# Altium footprint library Connector_Molex.PcbLib: 815 footprints (part 43 of 51)
Each footprint in its own frame and in the unit in brackets; x right, y up, seen from the top. Pads: shape width x height; smd on the part's side, far side on the other; paste and mask are expansions set on the pad; w line width, h text height; cw(c..) or ccw(c..) is an arc to the next point about the centre after c.
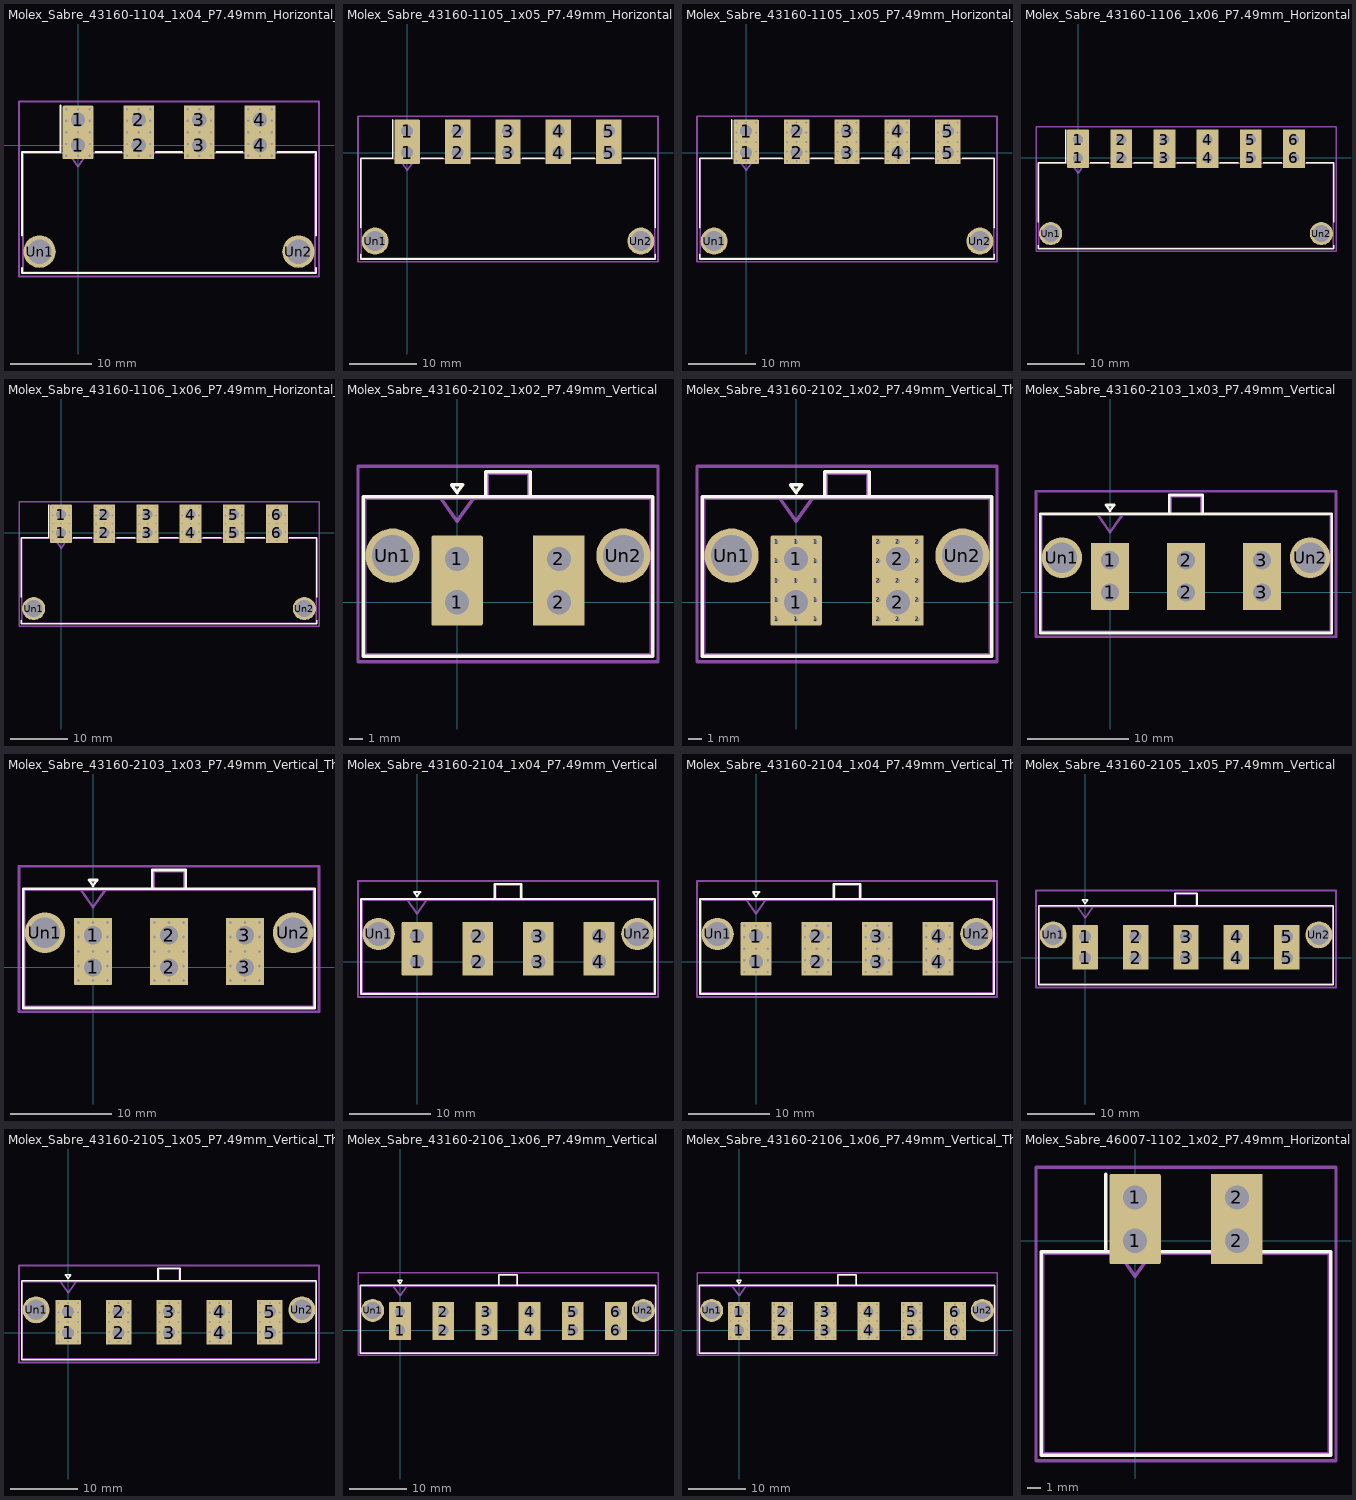
[diagram p42: the footprints below, top view; thin cyan lines are the x and y axes]

## Molex_Sabre_43160-1104_1x04_P7.49mm_Horizontal_ThermalVias [mm]
pads (62):
  rrect25% 0.6x0.6 hole 0.3: 1(-1.44,-1.265) 1(-1.44,0.162) 1(-1.44,1.59) 1(-1.44,3.017) 1(-1.44,4.445) 1(0,-1.265) 1(0,1.59) 1(0,4.445) 1(1.44,-1.265) 1(1.44,0.162) 1(1.44,1.59) 1(1.44,3.017) 1(1.44,4.445)
  rrect7% 3.78x3.43 hole 1.78: 1(0,0) 1(0,3.18)
  round 0.6 hole 0.3: 2(6.05,-1.265) 2(6.05,0.162) 2(6.05,1.59) 2(6.05,3.017) 2(6.05,4.445) 2(7.49,-1.265) 2(7.49,1.59) 2(7.49,4.445) 2(8.93,-1.265) 2(8.93,0.162) 2(8.93,1.59) 2(8.93,3.017) 2(8.93,4.445) 3(13.54,-1.265) 3(13.54,0.162) 3(13.54,1.59) 3(13.54,3.017) 3(13.54,4.445) 3(14.98,-1.265) 3(14.98,1.59) 3(14.98,4.445) 3(16.42,-1.265) 3(16.42,0.162) 3(16.42,1.59) 3(16.42,3.017) 3(16.42,4.445) 4(21.03,-1.265) 4(21.03,0.162) 4(21.03,1.59) 4(21.03,3.017) 4(21.03,4.445) 4(22.47,-1.265) 4(22.47,1.59) 4(22.47,4.445) 4(23.91,-1.265) 4(23.91,0.162) 4(23.91,1.59) 4(23.91,3.017) 4(23.91,4.445)
  rect 3.78x3.43 hole 1.78: 2(7.49,0) 2(7.49,3.18) 3(14.98,0) 3(14.98,3.18) 4(22.47,0) 4(22.47,3.18)
  round 4 hole 3: Un1(-4.75,-13.13) Un2(27.22,-13.13)
F.SilkS:
  lines w0.254: -6.9,-15.13 -6.9,-15.795 11.235,-15.795 29.37,-15.795 29.37,-15.13 ; -6.9,-11.13 -6.9,-0.815 -2.15,-0.815 -2.15,4.895 ; 2.15,-0.815 5.34,-0.815 ; 9.64,-0.815 12.83,-0.815 ; 17.13,-0.815 20.32,-0.815 ; 24.62,-0.815 29.37,-0.815 29.37,-11.13
B.SilkS:
  lines w0.254: -2.15,-1.975 2.15,-1.975 2.15,5.155 -2.15,5.155 -2.15,-1.975
Top Assembly:
  lines w0.254: -1.2,-0.925 0,-2.622 1.2,-0.925 ; -6.79,-15.685 29.26,-15.685 29.26,-0.925 -6.79,-0.925 -6.79,-15.685 ; -0.5,-0.925 0.5,-0.925 0.5,4.07 -0.5,4.07 -0.5,-0.925 ; 6.99,-0.925 7.99,-0.925 7.99,4.07 6.99,4.07 6.99,-0.925 ; 14.48,-0.925 15.48,-0.925 15.48,4.07 14.48,4.07 14.48,-0.925 ; 21.97,-0.925 22.97,-0.925 22.97,4.07 21.97,4.07 21.97,-0.925
  text "'.Designator'" at 7.193,-15.82 h1
Top Courtyard:
  lines w0.254: -7.29,-16.19 29.76,-16.19 29.76,5.4 -7.29,5.4 -7.29,-16.19
Top Designator:
  text ".Designator" at 3.617,-5.903 h1.52

## Molex_Sabre_43160-1105_1x05_P7.49mm_Horizontal [mm]
pads (12):
  rrect7% 3.78x3.43 hole 1.78: 1(0,0) 1(0,3.18)
  rect 3.78x3.43 hole 1.78: 2(7.49,0) 2(7.49,3.18) 3(14.98,0) 3(14.98,3.18) 4(22.47,0) 4(22.47,3.18) 5(29.96,0) 5(29.96,3.18)
  round 4 hole 3: Un1(-4.75,-13.13) Un2(34.71,-13.13)
F.SilkS:
  lines w0.254: -6.9,-15.13 -6.9,-15.795 14.98,-15.795 36.86,-15.795 36.86,-15.13 ; -6.9,-11.13 -6.9,-0.815 -2.15,-0.815 -2.15,4.895 ; 2.15,-0.815 5.34,-0.815 ; 9.64,-0.815 12.83,-0.815 ; 17.13,-0.815 20.32,-0.815 ; 24.62,-0.815 27.81,-0.815 ; 32.11,-0.815 36.86,-0.815 36.86,-11.13
B.SilkS:
  lines w0.254: -2.15,-1.975 2.15,-1.975 2.15,5.155 -2.15,5.155 -2.15,-1.975
Top Assembly:
  lines w0.254: -1.2,-0.925 0,-2.622 1.2,-0.925 ; -6.79,-15.685 36.75,-15.685 36.75,-0.925 -6.79,-0.925 -6.79,-15.685 ; -0.5,-0.925 0.5,-0.925 0.5,4.07 -0.5,4.07 -0.5,-0.925 ; 6.99,-0.925 7.99,-0.925 7.99,4.07 6.99,4.07 6.99,-0.925 ; 14.48,-0.925 15.48,-0.925 15.48,4.07 14.48,4.07 14.48,-0.925 ; 21.97,-0.925 22.97,-0.925 22.97,4.07 21.97,4.07 21.97,-0.925 ; 29.46,-0.925 30.46,-0.925 30.46,4.07 29.46,4.07 29.46,-0.925
  text "'.Designator'" at 10.933,-15.82 h1
Top Courtyard:
  lines w0.254: -7.29,-16.19 37.25,-16.19 37.25,5.4 -7.29,5.4 -7.29,-16.19
Top Designator:
  text ".Designator" at 7.362,-5.903 h1.52

## Molex_Sabre_43160-1105_1x05_P7.49mm_Horizontal_ThermalVias [mm]
pads (77):
  rrect25% 0.6x0.6 hole 0.3: 1(-1.44,-1.265) 1(-1.44,0.162) 1(-1.44,1.59) 1(-1.44,3.017) 1(-1.44,4.445) 1(0,-1.265) 1(0,1.59) 1(0,4.445) 1(1.44,-1.265) 1(1.44,0.162) 1(1.44,1.59) 1(1.44,3.017) 1(1.44,4.445)
  rrect7% 3.78x3.43 hole 1.78: 1(0,0) 1(0,3.18)
  round 0.6 hole 0.3: 2(6.05,-1.265) 2(6.05,0.162) 2(6.05,1.59) 2(6.05,3.017) 2(6.05,4.445) 2(7.49,-1.265) 2(7.49,1.59) 2(7.49,4.445) 2(8.93,-1.265) 2(8.93,0.162) 2(8.93,1.59) 2(8.93,3.017) 2(8.93,4.445) 3(13.54,-1.265) 3(13.54,0.162) 3(13.54,1.59) 3(13.54,3.017) 3(13.54,4.445) 3(14.98,-1.265) 3(14.98,1.59) 3(14.98,4.445) 3(16.42,-1.265) 3(16.42,0.162) 3(16.42,1.59) 3(16.42,3.017) 3(16.42,4.445) 4(21.03,-1.265) 4(21.03,0.162) 4(21.03,1.59) 4(21.03,3.017) 4(21.03,4.445) 4(22.47,-1.265) 4(22.47,1.59) 4(22.47,4.445) 4(23.91,-1.265) 4(23.91,0.162) 4(23.91,1.59) 4(23.91,3.017) 4(23.91,4.445) 5(28.52,-1.265) 5(28.52,0.162) 5(28.52,1.59) 5(28.52,3.017) 5(28.52,4.445) 5(29.96,-1.265) 5(29.96,1.59) 5(29.96,4.445) 5(31.4,-1.265) 5(31.4,0.162) 5(31.4,1.59) 5(31.4,3.017) 5(31.4,4.445)
  rect 3.78x3.43 hole 1.78: 2(7.49,0) 2(7.49,3.18) 3(14.98,0) 3(14.98,3.18) 4(22.47,0) 4(22.47,3.18) 5(29.96,0) 5(29.96,3.18)
  round 4 hole 3: Un1(-4.75,-13.13) Un2(34.71,-13.13)
F.SilkS:
  lines w0.254: -6.9,-15.13 -6.9,-15.795 14.98,-15.795 36.86,-15.795 36.86,-15.13 ; -6.9,-11.13 -6.9,-0.815 -2.15,-0.815 -2.15,4.895 ; 2.15,-0.815 5.34,-0.815 ; 9.64,-0.815 12.83,-0.815 ; 17.13,-0.815 20.32,-0.815 ; 24.62,-0.815 27.81,-0.815 ; 32.11,-0.815 36.86,-0.815 36.86,-11.13
B.SilkS:
  lines w0.254: -2.15,-1.975 2.15,-1.975 2.15,5.155 -2.15,5.155 -2.15,-1.975
Top Assembly:
  lines w0.254: -1.2,-0.925 0,-2.622 1.2,-0.925 ; -6.79,-15.685 36.75,-15.685 36.75,-0.925 -6.79,-0.925 -6.79,-15.685 ; -0.5,-0.925 0.5,-0.925 0.5,4.07 -0.5,4.07 -0.5,-0.925 ; 6.99,-0.925 7.99,-0.925 7.99,4.07 6.99,4.07 6.99,-0.925 ; 14.48,-0.925 15.48,-0.925 15.48,4.07 14.48,4.07 14.48,-0.925 ; 21.97,-0.925 22.97,-0.925 22.97,4.07 21.97,4.07 21.97,-0.925 ; 29.46,-0.925 30.46,-0.925 30.46,4.07 29.46,4.07 29.46,-0.925
  text "'.Designator'" at 10.933,-15.82 h1
Top Courtyard:
  lines w0.254: -7.29,-16.19 37.25,-16.19 37.25,5.4 -7.29,5.4 -7.29,-16.19
Top Designator:
  text ".Designator" at 7.362,-5.903 h1.52

## Molex_Sabre_43160-1106_1x06_P7.49mm_Horizontal [mm]
pads (14):
  rrect7% 3.78x3.43 hole 1.78: 1(0,0) 1(0,3.18)
  rect 3.78x3.43 hole 1.78: 2(7.49,0) 2(7.49,3.18) 3(14.98,0) 3(14.98,3.18) 4(22.47,0) 4(22.47,3.18) 5(29.96,0) 5(29.96,3.18) 6(37.45,0) 6(37.45,3.18)
  round 4 hole 3: Un1(-4.75,-13.13) Un2(42.2,-13.13)
F.SilkS:
  lines w0.254: -6.9,-15.13 -6.9,-15.795 18.725,-15.795 44.35,-15.795 44.35,-15.13 ; -6.9,-11.13 -6.9,-0.815 -2.15,-0.815 -2.15,4.895 ; 2.15,-0.815 5.34,-0.815 ; 9.64,-0.815 12.83,-0.815 ; 17.13,-0.815 20.32,-0.815 ; 24.62,-0.815 27.81,-0.815 ; 32.11,-0.815 35.3,-0.815 ; 39.6,-0.815 44.35,-0.815 44.35,-11.13
B.SilkS:
  lines w0.254: -2.15,-1.975 2.15,-1.975 2.15,5.155 -2.15,5.155 -2.15,-1.975
Top Assembly:
  lines w0.254: -1.2,-0.925 0,-2.622 1.2,-0.925 ; -6.79,-15.685 44.24,-15.685 44.24,-0.925 -6.79,-0.925 -6.79,-15.685 ; -0.5,-0.925 0.5,-0.925 0.5,4.07 -0.5,4.07 -0.5,-0.925 ; 6.99,-0.925 7.99,-0.925 7.99,4.07 6.99,4.07 6.99,-0.925 ; 14.48,-0.925 15.48,-0.925 15.48,4.07 14.48,4.07 14.48,-0.925 ; 21.97,-0.925 22.97,-0.925 22.97,4.07 21.97,4.07 21.97,-0.925 ; 29.46,-0.925 30.46,-0.925 30.46,4.07 29.46,4.07 29.46,-0.925 ; 36.95,-0.925 37.95,-0.925 37.95,4.07 36.95,4.07 36.95,-0.925
  text "'.Designator'" at 14.673,-15.82 h1
Top Courtyard:
  lines w0.254: -7.29,-16.19 44.74,-16.19 44.74,5.4 -7.29,5.4 -7.29,-16.19
Top Designator:
  text ".Designator" at 11.107,-5.903 h1.52

## Molex_Sabre_43160-1106_1x06_P7.49mm_Horizontal_ThermalVias [mm]
pads (92):
  rrect25% 0.6x0.6 hole 0.3: 1(-1.44,-1.265) 1(-1.44,0.162) 1(-1.44,1.59) 1(-1.44,3.017) 1(-1.44,4.445) 1(0,-1.265) 1(0,1.59) 1(0,4.445) 1(1.44,-1.265) 1(1.44,0.162) 1(1.44,1.59) 1(1.44,3.017) 1(1.44,4.445)
  rrect7% 3.78x3.43 hole 1.78: 1(0,0) 1(0,3.18)
  round 0.6 hole 0.3: 2(6.05,-1.265) 2(6.05,0.162) 2(6.05,1.59) 2(6.05,3.017) 2(6.05,4.445) 2(7.49,-1.265) 2(7.49,1.59) 2(7.49,4.445) 2(8.93,-1.265) 2(8.93,0.162) 2(8.93,1.59) 2(8.93,3.017) 2(8.93,4.445) 3(13.54,-1.265) 3(13.54,0.162) 3(13.54,1.59) 3(13.54,3.017) 3(13.54,4.445) 3(14.98,-1.265) 3(14.98,1.59) 3(14.98,4.445) 3(16.42,-1.265) 3(16.42,0.162) 3(16.42,1.59) 3(16.42,3.017) 3(16.42,4.445) 4(21.03,-1.265) 4(21.03,0.162) 4(21.03,1.59) 4(21.03,3.017) 4(21.03,4.445) 4(22.47,-1.265) 4(22.47,1.59) 4(22.47,4.445) 4(23.91,-1.265) 4(23.91,0.162) 4(23.91,1.59) 4(23.91,3.017) 4(23.91,4.445) 5(28.52,-1.265) 5(28.52,0.162) 5(28.52,1.59) 5(28.52,3.017) 5(28.52,4.445) 5(29.96,-1.265) 5(29.96,1.59) 5(29.96,4.445) 5(31.4,-1.265) 5(31.4,0.162) 5(31.4,1.59) 5(31.4,3.017) 5(31.4,4.445) 6(36.01,-1.265) 6(36.01,0.162) 6(36.01,1.59) 6(36.01,3.017) 6(36.01,4.445) 6(37.45,-1.265) 6(37.45,1.59) 6(37.45,4.445) 6(38.89,-1.265) 6(38.89,0.162) 6(38.89,1.59) 6(38.89,3.017) 6(38.89,4.445)
  rect 3.78x3.43 hole 1.78: 2(7.49,0) 2(7.49,3.18) 3(14.98,0) 3(14.98,3.18) 4(22.47,0) 4(22.47,3.18) 5(29.96,0) 5(29.96,3.18) 6(37.45,0) 6(37.45,3.18)
  round 4 hole 3: Un1(-4.75,-13.13) Un2(42.2,-13.13)
F.SilkS:
  lines w0.254: -6.9,-15.13 -6.9,-15.795 18.725,-15.795 44.35,-15.795 44.35,-15.13 ; -6.9,-11.13 -6.9,-0.815 -2.15,-0.815 -2.15,4.895 ; 2.15,-0.815 5.34,-0.815 ; 9.64,-0.815 12.83,-0.815 ; 17.13,-0.815 20.32,-0.815 ; 24.62,-0.815 27.81,-0.815 ; 32.11,-0.815 35.3,-0.815 ; 39.6,-0.815 44.35,-0.815 44.35,-11.13
B.SilkS:
  lines w0.254: -2.15,-1.975 2.15,-1.975 2.15,5.155 -2.15,5.155 -2.15,-1.975
Top Assembly:
  lines w0.254: -1.2,-0.925 0,-2.622 1.2,-0.925 ; -6.79,-15.685 44.24,-15.685 44.24,-0.925 -6.79,-0.925 -6.79,-15.685 ; -0.5,-0.925 0.5,-0.925 0.5,4.07 -0.5,4.07 -0.5,-0.925 ; 6.99,-0.925 7.99,-0.925 7.99,4.07 6.99,4.07 6.99,-0.925 ; 14.48,-0.925 15.48,-0.925 15.48,4.07 14.48,4.07 14.48,-0.925 ; 21.97,-0.925 22.97,-0.925 22.97,4.07 21.97,4.07 21.97,-0.925 ; 29.46,-0.925 30.46,-0.925 30.46,4.07 29.46,4.07 29.46,-0.925 ; 36.95,-0.925 37.95,-0.925 37.95,4.07 36.95,4.07 36.95,-0.925
  text "'.Designator'" at 14.673,-15.82 h1
Top Courtyard:
  lines w0.254: -7.29,-16.19 44.74,-16.19 44.74,5.4 -7.29,5.4 -7.29,-16.19
Top Designator:
  text ".Designator" at 11.107,-5.903 h1.52

## Molex_Sabre_43160-2102_1x02_P7.49mm_Vertical [mm]
pads (6):
  rrect7% 3.78x3.43 hole 1.78: 1(0,0) 1(0,3.18)
  rect 3.78x3.43 hole 1.78: 2(7.49,0) 2(7.49,3.18)
  round 4 hole 3: Un1(-4.75,3.43) Un2(12.24,3.43)
F.SilkS:
  lines w0.254: 2.11,7.76 2.11,9.61 5.38,9.61 5.38,7.76 ; -6.9,-3.99 14.39,-3.99 14.39,7.76 -6.9,7.76 -6.9,-3.99 ; -0.4,8.626 0.4,8.626 0,8.06 -0.4,8.626
B.SilkS:
  lines w0.254: -2.15,-1.975 2.15,-1.975 2.15,5.155 -2.15,5.155 -2.15,-1.975
Top Assembly:
  lines w0.254: -1.2,7.65 0,5.953 1.2,7.65 ; 2.22,7.65 2.22,9.5 5.27,9.5 5.27,7.65 ; -6.79,-3.88 14.28,-3.88 14.28,7.65 -6.79,7.65 -6.79,-3.88
  text "'.Designator'" at -0.297,-4.02 h1
Top Courtyard:
  lines w0.254: -7.29,-4.38 14.78,-4.38 14.78,10 -7.29,10 -7.29,-4.38
Top Designator:
  text ".Designator" at -3.873,2.302 h1.52

## Molex_Sabre_43160-2102_1x02_P7.49mm_Vertical_ThermalVias [mm]
pads (32):
  rrect25% 0.6x0.6 hole 0.3: 1(-1.44,-1.265) 1(-1.44,0.162) 1(-1.44,1.59) 1(-1.44,3.017) 1(-1.44,4.445) 1(0,-1.265) 1(0,1.59) 1(0,4.445) 1(1.44,-1.265) 1(1.44,0.162) 1(1.44,1.59) 1(1.44,3.017) 1(1.44,4.445)
  rrect7% 3.78x3.43 hole 1.78: 1(0,0) 1(0,3.18)
  round 0.6 hole 0.3: 2(6.05,-1.265) 2(6.05,0.162) 2(6.05,1.59) 2(6.05,3.017) 2(6.05,4.445) 2(7.49,-1.265) 2(7.49,1.59) 2(7.49,4.445) 2(8.93,-1.265) 2(8.93,0.162) 2(8.93,1.59) 2(8.93,3.017) 2(8.93,4.445)
  rect 3.78x3.43 hole 1.78: 2(7.49,0) 2(7.49,3.18)
  round 4 hole 3: Un1(-4.75,3.43) Un2(12.24,3.43)
F.SilkS:
  lines w0.254: 2.11,7.76 2.11,9.61 5.38,9.61 5.38,7.76 ; -6.9,-3.99 14.39,-3.99 14.39,7.76 -6.9,7.76 -6.9,-3.99 ; -0.4,8.626 0.4,8.626 0,8.06 -0.4,8.626
B.SilkS:
  lines w0.254: -2.15,-1.975 2.15,-1.975 2.15,5.155 -2.15,5.155 -2.15,-1.975
Top Assembly:
  lines w0.254: -1.2,7.65 0,5.953 1.2,7.65 ; 2.22,7.65 2.22,9.5 5.27,9.5 5.27,7.65 ; -6.79,-3.88 14.28,-3.88 14.28,7.65 -6.79,7.65 -6.79,-3.88
  text "'.Designator'" at -0.297,-4.02 h1
Top Courtyard:
  lines w0.254: -7.29,-4.38 14.78,-4.38 14.78,10 -7.29,10 -7.29,-4.38
Top Designator:
  text ".Designator" at -3.873,2.302 h1.52

## Molex_Sabre_43160-2103_1x03_P7.49mm_Vertical [mm]
pads (8):
  rrect7% 3.78x3.43 hole 1.78: 1(0,0) 1(0,3.18)
  rect 3.78x3.43 hole 1.78: 2(7.49,0) 2(7.49,3.18) 3(14.98,0) 3(14.98,3.18)
  round 4 hole 3: Un1(-4.75,3.43) Un2(19.73,3.43)
F.SilkS:
  lines w0.254: 5.855,7.76 5.855,9.61 9.125,9.61 9.125,7.76 ; -6.9,-3.99 21.88,-3.99 21.88,7.76 -6.9,7.76 -6.9,-3.99 ; -0.4,8.626 0.4,8.626 0,8.06 -0.4,8.626
B.SilkS:
  lines w0.254: -2.15,-1.975 2.15,-1.975 2.15,5.155 -2.15,5.155 -2.15,-1.975
Top Assembly:
  lines w0.254: -1.2,7.65 0,5.953 1.2,7.65 ; 5.965,7.65 5.965,9.5 9.015,9.5 9.015,7.65 ; -6.79,-3.88 21.77,-3.88 21.77,7.65 -6.79,7.65 -6.79,-3.88
  text "'.Designator'" at 3.443,-4.02 h1
Top Courtyard:
  lines w0.254: -7.3,-4.38 22.28,-4.38 22.28,10 -7.3,10 -7.3,-4.38
Top Designator:
  text ".Designator" at -0.128,2.302 h1.52

## Molex_Sabre_43160-2103_1x03_P7.49mm_Vertical_ThermalVias [mm]
pads (47):
  rrect25% 0.6x0.6 hole 0.3: 1(-1.44,-1.265) 1(-1.44,0.162) 1(-1.44,1.59) 1(-1.44,3.017) 1(-1.44,4.445) 1(0,-1.265) 1(0,1.59) 1(0,4.445) 1(1.44,-1.265) 1(1.44,0.162) 1(1.44,1.59) 1(1.44,3.017) 1(1.44,4.445)
  rrect7% 3.78x3.43 hole 1.78: 1(0,0) 1(0,3.18)
  round 0.6 hole 0.3: 2(6.05,-1.265) 2(6.05,0.162) 2(6.05,1.59) 2(6.05,3.017) 2(6.05,4.445) 2(7.49,-1.265) 2(7.49,1.59) 2(7.49,4.445) 2(8.93,-1.265) 2(8.93,0.162) 2(8.93,1.59) 2(8.93,3.017) 2(8.93,4.445) 3(13.54,-1.265) 3(13.54,0.162) 3(13.54,1.59) 3(13.54,3.017) 3(13.54,4.445) 3(14.98,-1.265) 3(14.98,1.59) 3(14.98,4.445) 3(16.42,-1.265) 3(16.42,0.162) 3(16.42,1.59) 3(16.42,3.017) 3(16.42,4.445)
  rect 3.78x3.43 hole 1.78: 2(7.49,0) 2(7.49,3.18) 3(14.98,0) 3(14.98,3.18)
  round 4 hole 3: Un1(-4.75,3.43) Un2(19.73,3.43)
F.SilkS:
  lines w0.254: 5.855,7.76 5.855,9.61 9.125,9.61 9.125,7.76 ; -6.9,-3.99 21.88,-3.99 21.88,7.76 -6.9,7.76 -6.9,-3.99 ; -0.4,8.626 0.4,8.626 0,8.06 -0.4,8.626
B.SilkS:
  lines w0.254: -2.15,-1.975 2.15,-1.975 2.15,5.155 -2.15,5.155 -2.15,-1.975
Top Assembly:
  lines w0.254: -1.2,7.65 0,5.953 1.2,7.65 ; 5.965,7.65 5.965,9.5 9.015,9.5 9.015,7.65 ; -6.79,-3.88 21.77,-3.88 21.77,7.65 -6.79,7.65 -6.79,-3.88
  text "'.Designator'" at 3.443,-4.02 h1
Top Courtyard:
  lines w0.254: -7.3,-4.38 22.28,-4.38 22.28,10 -7.3,10 -7.3,-4.38
Top Designator:
  text ".Designator" at -0.128,2.302 h1.52

## Molex_Sabre_43160-2104_1x04_P7.49mm_Vertical [mm]
pads (10):
  rrect7% 3.78x3.43 hole 1.78: 1(0,0) 1(0,3.18)
  rect 3.78x3.43 hole 1.78: 2(7.49,0) 2(7.49,3.18) 3(14.98,0) 3(14.98,3.18) 4(22.47,0) 4(22.47,3.18)
  round 4 hole 3: Un1(-4.75,3.43) Un2(27.22,3.43)
F.SilkS:
  lines w0.254: 9.6,7.76 9.6,9.61 12.87,9.61 12.87,7.76 ; -6.9,-3.99 29.37,-3.99 29.37,7.76 -6.9,7.76 -6.9,-3.99 ; -0.4,8.626 0.4,8.626 0,8.06 -0.4,8.626
B.SilkS:
  lines w0.254: -2.15,-1.975 2.15,-1.975 2.15,5.155 -2.15,5.155 -2.15,-1.975
Top Assembly:
  lines w0.254: -1.2,7.65 0,5.953 1.2,7.65 ; 9.71,7.65 9.71,9.5 12.76,9.5 12.76,7.65 ; -6.79,-3.88 29.26,-3.88 29.26,7.65 -6.79,7.65 -6.79,-3.88
  text "'.Designator'" at 7.193,-4.02 h1
Top Courtyard:
  lines w0.254: -7.29,-4.38 29.76,-4.38 29.76,10 -7.29,10 -7.29,-4.38
Top Designator:
  text ".Designator" at 3.617,2.302 h1.52

## Molex_Sabre_43160-2104_1x04_P7.49mm_Vertical_ThermalVias [mm]
pads (62):
  rrect25% 0.6x0.6 hole 0.3: 1(-1.44,-1.265) 1(-1.44,0.162) 1(-1.44,1.59) 1(-1.44,3.017) 1(-1.44,4.445) 1(0,-1.265) 1(0,1.59) 1(0,4.445) 1(1.44,-1.265) 1(1.44,0.162) 1(1.44,1.59) 1(1.44,3.017) 1(1.44,4.445)
  rrect7% 3.78x3.43 hole 1.78: 1(0,0) 1(0,3.18)
  round 0.6 hole 0.3: 2(6.05,-1.265) 2(6.05,0.162) 2(6.05,1.59) 2(6.05,3.017) 2(6.05,4.445) 2(7.49,-1.265) 2(7.49,1.59) 2(7.49,4.445) 2(8.93,-1.265) 2(8.93,0.162) 2(8.93,1.59) 2(8.93,3.017) 2(8.93,4.445) 3(13.54,-1.265) 3(13.54,0.162) 3(13.54,1.59) 3(13.54,3.017) 3(13.54,4.445) 3(14.98,-1.265) 3(14.98,1.59) 3(14.98,4.445) 3(16.42,-1.265) 3(16.42,0.162) 3(16.42,1.59) 3(16.42,3.017) 3(16.42,4.445) 4(21.03,-1.265) 4(21.03,0.162) 4(21.03,1.59) 4(21.03,3.017) 4(21.03,4.445) 4(22.47,-1.265) 4(22.47,1.59) 4(22.47,4.445) 4(23.91,-1.265) 4(23.91,0.162) 4(23.91,1.59) 4(23.91,3.017) 4(23.91,4.445)
  rect 3.78x3.43 hole 1.78: 2(7.49,0) 2(7.49,3.18) 3(14.98,0) 3(14.98,3.18) 4(22.47,0) 4(22.47,3.18)
  round 4 hole 3: Un1(-4.75,3.43) Un2(27.22,3.43)
F.SilkS:
  lines w0.254: 9.6,7.76 9.6,9.61 12.87,9.61 12.87,7.76 ; -6.9,-3.99 29.37,-3.99 29.37,7.76 -6.9,7.76 -6.9,-3.99 ; -0.4,8.626 0.4,8.626 0,8.06 -0.4,8.626
B.SilkS:
  lines w0.254: -2.15,-1.975 2.15,-1.975 2.15,5.155 -2.15,5.155 -2.15,-1.975
Top Assembly:
  lines w0.254: -1.2,7.65 0,5.953 1.2,7.65 ; 9.71,7.65 9.71,9.5 12.76,9.5 12.76,7.65 ; -6.79,-3.88 29.26,-3.88 29.26,7.65 -6.79,7.65 -6.79,-3.88
  text "'.Designator'" at 7.193,-4.02 h1
Top Courtyard:
  lines w0.254: -7.29,-4.38 29.76,-4.38 29.76,10 -7.29,10 -7.29,-4.38
Top Designator:
  text ".Designator" at 3.617,2.302 h1.52

## Molex_Sabre_43160-2105_1x05_P7.49mm_Vertical [mm]
pads (12):
  rrect7% 3.78x3.43 hole 1.78: 1(0,0) 1(0,3.18)
  rect 3.78x3.43 hole 1.78: 2(7.49,0) 2(7.49,3.18) 3(14.98,0) 3(14.98,3.18) 4(22.47,0) 4(22.47,3.18) 5(29.96,0) 5(29.96,3.18)
  round 4 hole 3: Un1(-4.75,3.43) Un2(34.71,3.43)
F.SilkS:
  lines w0.254: 13.345,7.76 13.345,9.61 16.615,9.61 16.615,7.76 ; -6.9,-3.99 36.86,-3.99 36.86,7.76 -6.9,7.76 -6.9,-3.99 ; -0.4,8.626 0.4,8.626 0,8.06 -0.4,8.626
B.SilkS:
  lines w0.254: -2.15,-1.975 2.15,-1.975 2.15,5.155 -2.15,5.155 -2.15,-1.975
Top Assembly:
  lines w0.254: -1.2,7.65 0,5.953 1.2,7.65 ; 13.455,7.65 13.455,9.5 16.505,9.5 16.505,7.65 ; -6.79,-3.88 36.75,-3.88 36.75,7.65 -6.79,7.65 -6.79,-3.88
  text "'.Designator'" at 10.933,-4.02 h1
Top Courtyard:
  lines w0.254: -7.29,-4.38 37.25,-4.38 37.25,10 -7.29,10 -7.29,-4.38
Top Designator:
  text ".Designator" at 7.362,2.302 h1.52

## Molex_Sabre_43160-2105_1x05_P7.49mm_Vertical_ThermalVias [mm]
pads (77):
  rrect25% 0.6x0.6 hole 0.3: 1(-1.44,-1.265) 1(-1.44,0.162) 1(-1.44,1.59) 1(-1.44,3.017) 1(-1.44,4.445) 1(0,-1.265) 1(0,1.59) 1(0,4.445) 1(1.44,-1.265) 1(1.44,0.162) 1(1.44,1.59) 1(1.44,3.017) 1(1.44,4.445)
  rrect7% 3.78x3.43 hole 1.78: 1(0,0) 1(0,3.18)
  round 0.6 hole 0.3: 2(6.05,-1.265) 2(6.05,0.162) 2(6.05,1.59) 2(6.05,3.017) 2(6.05,4.445) 2(7.49,-1.265) 2(7.49,1.59) 2(7.49,4.445) 2(8.93,-1.265) 2(8.93,0.162) 2(8.93,1.59) 2(8.93,3.017) 2(8.93,4.445) 3(13.54,-1.265) 3(13.54,0.162) 3(13.54,1.59) 3(13.54,3.017) 3(13.54,4.445) 3(14.98,-1.265) 3(14.98,1.59) 3(14.98,4.445) 3(16.42,-1.265) 3(16.42,0.162) 3(16.42,1.59) 3(16.42,3.017) 3(16.42,4.445) 4(21.03,-1.265) 4(21.03,0.162) 4(21.03,1.59) 4(21.03,3.017) 4(21.03,4.445) 4(22.47,-1.265) 4(22.47,1.59) 4(22.47,4.445) 4(23.91,-1.265) 4(23.91,0.162) 4(23.91,1.59) 4(23.91,3.017) 4(23.91,4.445) 5(28.52,-1.265) 5(28.52,0.162) 5(28.52,1.59) 5(28.52,3.017) 5(28.52,4.445) 5(29.96,-1.265) 5(29.96,1.59) 5(29.96,4.445) 5(31.4,-1.265) 5(31.4,0.162) 5(31.4,1.59) 5(31.4,3.017) 5(31.4,4.445)
  rect 3.78x3.43 hole 1.78: 2(7.49,0) 2(7.49,3.18) 3(14.98,0) 3(14.98,3.18) 4(22.47,0) 4(22.47,3.18) 5(29.96,0) 5(29.96,3.18)
  round 4 hole 3: Un1(-4.75,3.43) Un2(34.71,3.43)
F.SilkS:
  lines w0.254: 13.345,7.76 13.345,9.61 16.615,9.61 16.615,7.76 ; -6.9,-3.99 36.86,-3.99 36.86,7.76 -6.9,7.76 -6.9,-3.99 ; -0.4,8.626 0.4,8.626 0,8.06 -0.4,8.626
B.SilkS:
  lines w0.254: -2.15,-1.975 2.15,-1.975 2.15,5.155 -2.15,5.155 -2.15,-1.975
Top Assembly:
  lines w0.254: -1.2,7.65 0,5.953 1.2,7.65 ; 13.455,7.65 13.455,9.5 16.505,9.5 16.505,7.65 ; -6.79,-3.88 36.75,-3.88 36.75,7.65 -6.79,7.65 -6.79,-3.88
  text "'.Designator'" at 10.933,-4.02 h1
Top Courtyard:
  lines w0.254: -7.29,-4.38 37.25,-4.38 37.25,10 -7.29,10 -7.29,-4.38
Top Designator:
  text ".Designator" at 7.362,2.302 h1.52

## Molex_Sabre_43160-2106_1x06_P7.49mm_Vertical [mm]
pads (14):
  rrect7% 3.78x3.43 hole 1.78: 1(0,0) 1(0,3.18)
  rect 3.78x3.43 hole 1.78: 2(7.49,0) 2(7.49,3.18) 3(14.98,0) 3(14.98,3.18) 4(22.47,0) 4(22.47,3.18) 5(29.96,0) 5(29.96,3.18) 6(37.45,0) 6(37.45,3.18)
  round 4 hole 3: Un1(-4.75,3.43) Un2(42.2,3.43)
F.SilkS:
  lines w0.254: 17.09,7.76 17.09,9.61 20.36,9.61 20.36,7.76 ; -6.9,-3.99 44.35,-3.99 44.35,7.76 -6.9,7.76 -6.9,-3.99 ; -0.4,8.626 0.4,8.626 0,8.06 -0.4,8.626
B.SilkS:
  lines w0.254: -2.15,-1.975 2.15,-1.975 2.15,5.155 -2.15,5.155 -2.15,-1.975
Top Assembly:
  lines w0.254: -1.2,7.65 0,5.953 1.2,7.65 ; 17.2,7.65 17.2,9.5 20.25,9.5 20.25,7.65 ; -6.79,-3.88 44.24,-3.88 44.24,7.65 -6.79,7.65 -6.79,-3.88
  text "'.Designator'" at 14.673,-4.02 h1
Top Courtyard:
  lines w0.254: -7.29,-4.38 44.74,-4.38 44.74,10 -7.29,10 -7.29,-4.38
Top Designator:
  text ".Designator" at 11.107,2.302 h1.52

## Molex_Sabre_43160-2106_1x06_P7.49mm_Vertical_ThermalVias [mm]
pads (92):
  rrect25% 0.6x0.6 hole 0.3: 1(-1.44,-1.265) 1(-1.44,0.162) 1(-1.44,1.59) 1(-1.44,3.017) 1(-1.44,4.445) 1(0,-1.265) 1(0,1.59) 1(0,4.445) 1(1.44,-1.265) 1(1.44,0.162) 1(1.44,1.59) 1(1.44,3.017) 1(1.44,4.445)
  rrect7% 3.78x3.43 hole 1.78: 1(0,0) 1(0,3.18)
  round 0.6 hole 0.3: 2(6.05,-1.265) 2(6.05,0.162) 2(6.05,1.59) 2(6.05,3.017) 2(6.05,4.445) 2(7.49,-1.265) 2(7.49,1.59) 2(7.49,4.445) 2(8.93,-1.265) 2(8.93,0.162) 2(8.93,1.59) 2(8.93,3.017) 2(8.93,4.445) 3(13.54,-1.265) 3(13.54,0.162) 3(13.54,1.59) 3(13.54,3.017) 3(13.54,4.445) 3(14.98,-1.265) 3(14.98,1.59) 3(14.98,4.445) 3(16.42,-1.265) 3(16.42,0.162) 3(16.42,1.59) 3(16.42,3.017) 3(16.42,4.445) 4(21.03,-1.265) 4(21.03,0.162) 4(21.03,1.59) 4(21.03,3.017) 4(21.03,4.445) 4(22.47,-1.265) 4(22.47,1.59) 4(22.47,4.445) 4(23.91,-1.265) 4(23.91,0.162) 4(23.91,1.59) 4(23.91,3.017) 4(23.91,4.445) 5(28.52,-1.265) 5(28.52,0.162) 5(28.52,1.59) 5(28.52,3.017) 5(28.52,4.445) 5(29.96,-1.265) 5(29.96,1.59) 5(29.96,4.445) 5(31.4,-1.265) 5(31.4,0.162) 5(31.4,1.59) 5(31.4,3.017) 5(31.4,4.445) 6(36.01,-1.265) 6(36.01,0.162) 6(36.01,1.59) 6(36.01,3.017) 6(36.01,4.445) 6(37.45,-1.265) 6(37.45,1.59) 6(37.45,4.445) 6(38.89,-1.265) 6(38.89,0.162) 6(38.89,1.59) 6(38.89,3.017) 6(38.89,4.445)
  rect 3.78x3.43 hole 1.78: 2(7.49,0) 2(7.49,3.18) 3(14.98,0) 3(14.98,3.18) 4(22.47,0) 4(22.47,3.18) 5(29.96,0) 5(29.96,3.18) 6(37.45,0) 6(37.45,3.18)
  round 4 hole 3: Un1(-4.75,3.43) Un2(42.2,3.43)
F.SilkS:
  lines w0.254: 17.09,7.76 17.09,9.61 20.36,9.61 20.36,7.76 ; -6.9,-3.99 44.35,-3.99 44.35,7.76 -6.9,7.76 -6.9,-3.99 ; -0.4,8.626 0.4,8.626 0,8.06 -0.4,8.626
B.SilkS:
  lines w0.254: -2.15,-1.975 2.15,-1.975 2.15,5.155 -2.15,5.155 -2.15,-1.975
Top Assembly:
  lines w0.254: -1.2,7.65 0,5.953 1.2,7.65 ; 17.2,7.65 17.2,9.5 20.25,9.5 20.25,7.65 ; -6.79,-3.88 44.24,-3.88 44.24,7.65 -6.79,7.65 -6.79,-3.88
  text "'.Designator'" at 14.673,-4.02 h1
Top Courtyard:
  lines w0.254: -7.29,-4.38 44.74,-4.38 44.74,10 -7.29,10 -7.29,-4.38
Top Designator:
  text ".Designator" at 11.107,2.302 h1.52

## Molex_Sabre_46007-1102_1x02_P7.49mm_Horizontal [mm]
pads (4):
  rrect7% 3.78x3.43 hole 1.78: 1(0,0) 1(0,3.18)
  rect 3.78x3.43 hole 1.78: 2(7.49,0) 2(7.49,3.18)
F.SilkS:
  lines w0.254: -2.15,-0.815 -2.15,4.895 ; 2.15,-0.815 5.34,-0.815 ; -6.9,-15.795 14.39,-15.795 14.39,-0.815 -6.9,-0.815 -6.9,-15.795
B.SilkS:
  lines w0.254: -2.15,-1.975 2.15,-1.975 2.15,5.155 -2.15,5.155 -2.15,-1.975
Top Assembly:
  lines w0.254: -1.2,-0.925 0,-2.622 1.2,-0.925 ; -6.79,-15.685 14.28,-15.685 14.28,-0.925 -6.79,-0.925 -6.79,-15.685 ; -0.5,-0.925 0.5,-0.925 0.5,4.07 -0.5,4.07 -0.5,-0.925 ; 6.99,-0.925 7.99,-0.925 7.99,4.07 6.99,4.07 6.99,-0.925
  text "'.Designator'" at -0.297,-15.82 h1
Top Courtyard:
  lines w0.254: -7.29,-16.19 14.78,-16.19 14.78,5.4 -7.29,5.4 -7.29,-16.19
Top Designator:
  text ".Designator" at -3.873,-5.903 h1.52